# Altium schematic symbol library SCH - ETHERNET - TI DP83TC811R-Q1.Schlib: 1 symbol
Pins are listed as number, name and electrical type; pins without a type are passive.

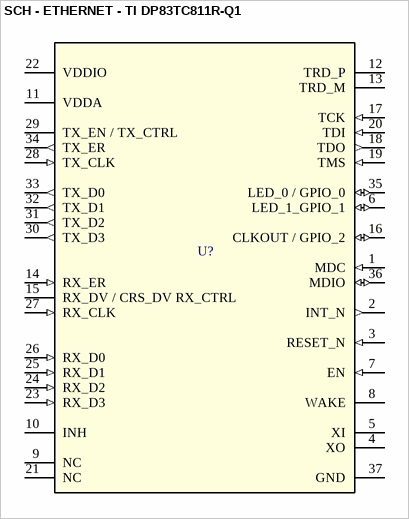
[diagram p0: symbol SCH - ETHERNET - TI DP83TC811R-Q1]

## SCH - ETHERNET - TI DP83TC811R-Q1
designator U?
footprint RND0036A
pins: 1 MDC (in), 2 INT_N (out), 3 RESET_N (in), 4 XO, 5 XI, 6 LED_1_GPIO_1 (io), 7 EN (in), 8 WAKE, 9 NC, 10 INH, 11 VDDA (power), 12 TRD_P, 13 TRD_M, 14 RX_ER (in), 15 RX_DV / CRS_DV RX_CTRL, 16 CLKOUT / GPIO_2 (io), 17 TCK (in), 18 TDO (out), 19 TMS (in), 20 TDI (in), 21 NC, 22 VDDIO (power), 23 RX_D3 (in), 24 RX_D2 (in), 25 RX_D1 (in), 26 RX_D0 (in), 27 RX_CLK (in), 28 TX_CLK (in), 29 TX_EN / TX_CTRL, 30 TX_D3 (out), 31 TX_D2 (out), 32 TX_D1 (out), 33 TX_D0 (out), 34 TX_ER (out), 35 LED_0 / GPIO_0 (io), 36 MDIO (io), 37 GND (power)